# EAGLE library part ISL12022 (library intersil)
RTC CLOCKK/CALENDAR I2C
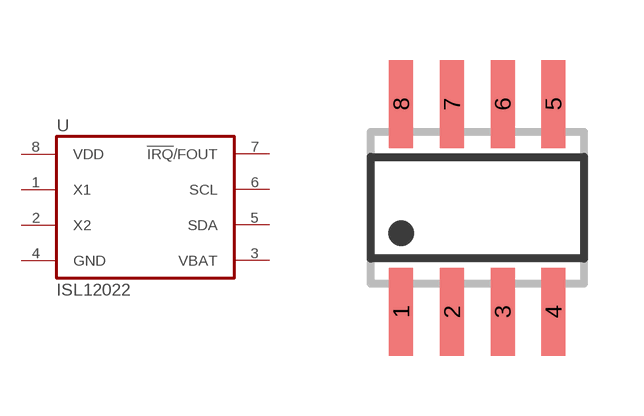
[diagram p6: symbol with the pads of SO08; footprint SO08]

Designator prefix U

## ISL12022  [SO08]
1  X1  in
2  X2  out
3  VBAT  pwr
4  GND  pwr
5  SDA
6  SCL  in
7  !IRQ!/FOUT  pwr
8  VDD  pwr

## Footprint SO08 (pad centres in mm)
SMALL OUTLINE INTEGRATED CIRCUIT body 3.9 mm/JEDEC MS-012AA
smd 0.6 x 2.2: 1 -1.905,-2.6; 2 -0.635,-2.6; 3 0.635,-2.6; 4 1.905,-2.6; 5 1.905,2.6; 6 0.635,2.6; 7 -0.635,2.6; 8 -1.905,2.6